# Altium schematic symbol library ProgramDebug.SchLib: 1 symbol
Pins are listed as number, name and electrical type; pins without a type are passive.

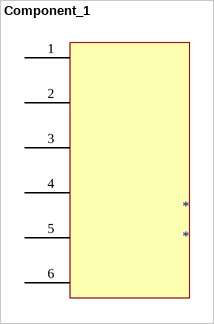
[diagram p0: symbol Component_1]

## Component_1
designator *
pins: 1, 2, 3, 4 74, 5, 6 1